# Altium footprint library connectors.PcbLib: 60 footprints (part 3 of 4)
Each footprint in its own frame and in the unit in brackets; x right, y up, seen from the top. Pads: shape width x height; smd on the part's side, far side on the other; paste and mask are expansions set on the pad; w line width, h text height; cw(c..) or ccw(c..) is an arc to the next point about the centre after c.
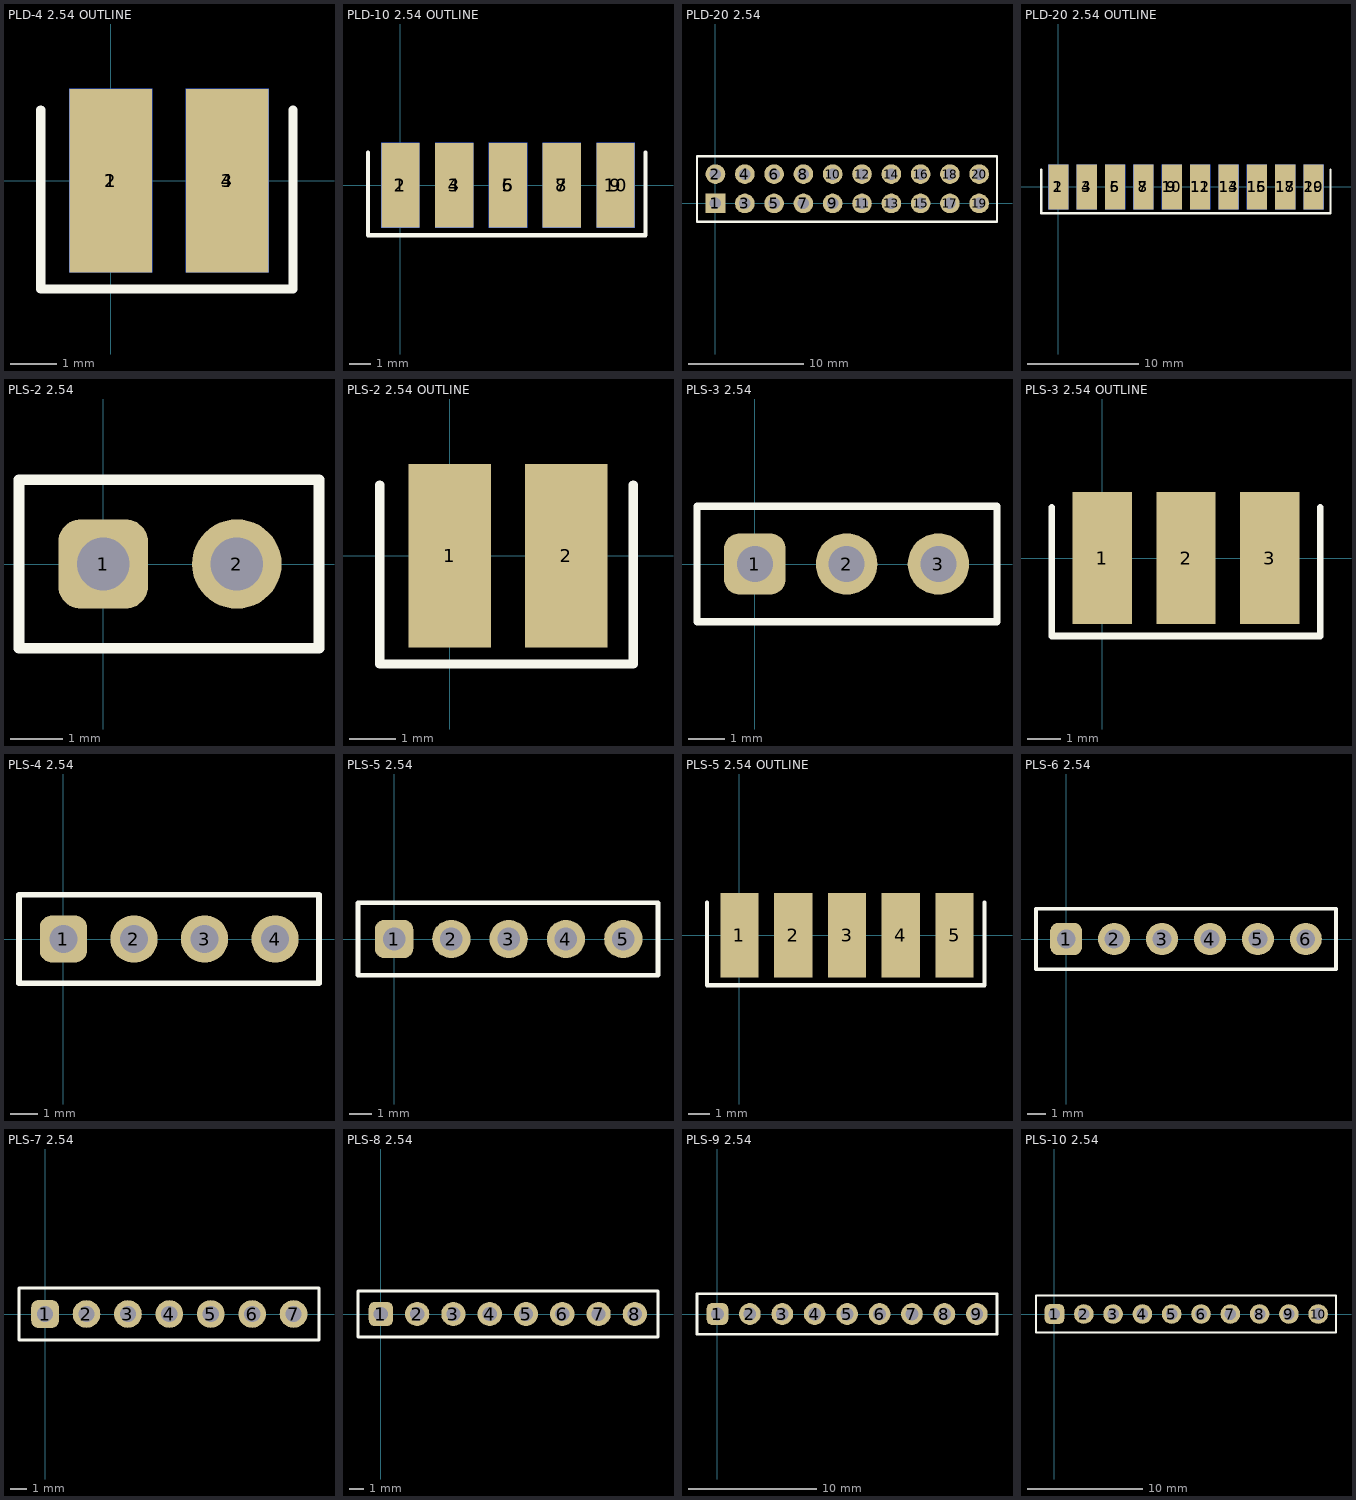
[diagram p2: the footprints below, top view; thin cyan lines are the x and y axes]

## PLD-4 2.54 OUTLINE [mm] "Pitch 2.54"
height 8.5
pads (4):
  rect 1.8x4 smd mask+0.1: 1(0,0) 3(2.54,0)
  rect 1.8x4 smd far side mask+0.1: 2(0,0) 4(2.54,0)
Top Overlay:
  lines w0.2: -1.524,1.54 -1.524,-2.36 3.97,-2.36 3.97,1.54
3D body "HEADER_1x2_2.54.stp": height -0.87, standoff -3.41, extent -1.33,-0.46 3.75,11.08
3D body "HEADER_1x2_2.54.stp": height 1.67, standoff -0.87, extent -1.33,-0.46 3.75,11.08

## PLD-10 2.54 OUTLINE [mm] "Pitch 2.54"
height 8.5
pads (10):
  rect 1.8x4 smd mask+0.1: 1(0,0) 3(2.54,0) 5(5.08,0) 7(7.62,0) 9(10.16,0)
  rect 1.8x4 smd far side mask+0.1: 2(0,0) 4(2.54,0) 6(5.08,0) 8(7.62,0) 10(10.16,0)
Top Overlay:
  lines w0.2: -1.524,1.54 -1.524,-2.36 11.57,-2.36 11.57,1.54
3D body "HEADER_1x5_2.54.stp": height 1.67, standoff -0.87, extent -1.33,-0.46 11.37,11.08
3D body "HEADER_1x5_2.54.stp": height -0.87, standoff -3.41, extent -1.33,-0.46 11.37,11.08

## PLD-20 2.54 [mm] "Pitch 2.54"
height 8.5
pads (20):
  rect 1.7x1.7 hole 1 mask+0.1: 1(0,0)
  round 1.7 hole 1 mask+0.1: 2(0,2.54) 3(2.54,0) 4(2.54,2.54) 5(5.08,0) 6(5.08,2.54) 7(7.62,0) 8(7.62,2.54) 9(10.16,0) 10(10.16,2.54) 11(12.7,0) 12(12.7,2.54) 13(15.24,0) 14(15.24,2.54) 15(17.78,0) 16(17.78,2.54) 17(20.32,0) 18(20.32,2.54) 19(22.86,0) 20(22.86,2.54)
Top Overlay:
  lines w0.2: -1.6,-1.6 24.4,-1.6 24.4,4.1 -1.6,4.1 -1.6,-1.6
3D body "HEADER_1x10_2.54.stp": height 8.54, standoff -3, extent -1.27,-1.27 24.13,1.27
3D body "HEADER_1x10_2.54.stp": height 8.54, standoff -3, extent -1.27,1.27 24.13,3.81

## PLD-20 2.54 OUTLINE [mm] "Pitch 2.54"
height 8.5
pads (20):
  rect 1.8x4 smd mask+0.1: 1(0,0) 3(2.54,0) 5(5.08,0) 7(7.62,0) 9(10.16,0) 11(12.7,0) 13(15.24,0) 15(17.78,0) 17(20.32,0) 19(22.86,0)
  rect 1.8x4 smd far side mask+0.1: 2(0,0) 4(2.54,0) 6(5.08,0) 8(7.62,0) 10(10.16,0) 12(12.7,0) 14(15.24,0) 16(17.78,0) 18(20.32,0) 20(22.86,0)
Top Overlay:
  lines w0.2: -1.524,1.54 -1.524,-2.36 24.37,-2.36 24.37,1.54
3D body "HEADER_1x10_2.54.stp": height 1.67, standoff -0.87, extent -1.33,-0.46 24.07,11.08
3D body "HEADER_1x10_2.54.stp": height -0.87, standoff -3.41, extent -1.33,-0.46 24.07,11.08

## PLS-2 2.54 [mm] "Pitch 2.54"
height 8.5
pads (2):
  rrect50% 1.7x1.7 hole 1 mask+0.1: 1(0,0)
  round 1.7 hole 1 mask+0.1: 2(2.54,0)
Top Overlay:
  lines w0.2: -1.6,-1.6 -1.6,1.6 4.1,1.6 4.1,-1.6 -1.6,-1.6
3D body "HEADER_1x2_2.54.stp": height 8.54, standoff -3, extent -1.27,-1.27 3.81,1.27

## PLS-2 2.54 OUTLINE [mm] "Pitch 2.54"
height 8.5
pads (2):
  rect 1.8x4 smd mask+0.1: 1(0,0) 2(2.54,0)
Top Overlay:
  lines w0.2: -1.524,1.54 -1.524,-2.36 4,-2.36 4,1.54
3D body "1x2 Male Pin Header.STEP": height 1.65, standoff -0.85, extent -1.27,-0.4 3.815,13.14

## PLS-3 2.54 [mm] "Pitch 2.54"
height 8.5
pads (3):
  rrect50% 1.7x1.7 hole 1 mask+0.1: 1(0,0)
  round 1.7 hole 1 mask+0.1: 2(2.54,0) 3(5.08,0)
Top Overlay:
  lines w0.2: -1.6,-1.6 -1.6,1.6 6.7,1.6 6.7,-1.6 -1.6,-1.6
3D body "HEADER_1x3_2.54.stp": height 8.54, standoff -3, extent -1.27,-1.27 6.35,1.27

## PLS-3 2.54 OUTLINE [mm] "Pitch 2.54"
height 8.5
pads (3):
  rect 1.8x4 smd mask+0.1: 1(0,0) 2(2.54,0) 3(5.08,0)
Top Overlay:
  lines w0.2: -1.524,1.54 -1.524,-2.36 6.6,-2.36 6.6,1.54
3D body "1x3 Male Pin Header.STEP": height 1.65, standoff -0.85, extent -1.27,-0.4 6.355,13.14

## PLS-4 2.54 [mm] "Pitch 2.54"
height 8.5
pads (4):
  rrect50% 1.7x1.7 hole 1 mask+0.1: 1(0,0)
  round 1.7 hole 1 mask+0.1: 2(2.54,0) 3(5.08,0) 4(7.62,0)
Top Overlay:
  lines w0.2: -1.6,-1.6 9.2,-1.6 9.2,1.6 -1.6,1.6 -1.6,-1.6
3D body "HEADER_1x4_2.54.stp": height 8.54, standoff -3, extent -1.27,-1.27 8.89,1.27

## PLS-5 2.54 [mm] "Pitch 2.54"
height 8.5
pads (5):
  rrect50% 1.7x1.7 hole 1 mask+0.1: 1(0,0)
  round 1.7 hole 1 mask+0.1: 2(2.54,0) 3(5.08,0) 4(7.62,0) 5(10.16,0)
Top Overlay:
  lines w0.2: -1.6,-1.6 11.7,-1.6 11.7,1.6 -1.6,1.6 -1.6,-1.6
3D body "HEADER_1x5_2.54.stp": height 8.54, standoff -3, extent -1.27,-1.27 11.43,1.27

## PLS-5 2.54 OUTLINE [mm] "Pitch 2.54"
height 8.5
pads (5):
  rect 1.8x4 smd mask+0.1: 1(0,0) 2(2.54,0) 3(5.08,0) 4(7.62,0) 5(10.16,0)
Top Overlay:
  lines w0.2: -1.524,1.54 -1.524,-2.36 11.57,-2.36 11.57,1.54
3D body "HEADER_1x5_2.54.stp": height 1.67, standoff -0.87, extent -1.33,-0.46 11.37,11.08

## PLS-6 2.54 [mm] "Pitch 2.54"
height 8.5
pads (6):
  rrect50% 1.7x1.7 hole 1 mask+0.1: 1(0,0)
  round 1.7 hole 1 mask+0.1: 2(2.54,0) 3(5.08,0) 4(7.62,0) 5(10.16,0) 6(12.7,0)
Top Overlay:
  lines w0.2: -1.6,-1.6 -1.6,1.6 14.3,1.6 14.3,-1.6 -1.6,-1.6
3D body "HEADER_1x6_2.54.stp": height 8.54, standoff -3, extent -1.27,-1.27 13.97,1.27

## PLS-7 2.54 [mm] "Pitch 2.54"
height 8.5
pads (7):
  rrect50% 1.7x1.7 hole 1 mask+0.1: 1(0,0)
  round 1.7 hole 1 mask+0.1: 2(2.54,0) 3(5.08,0) 4(7.62,0) 5(10.16,0) 6(12.7,0) 7(15.24,0)
Top Overlay:
  lines w0.2: -1.6,-1.6 -1.6,1.6 16.8,1.6 16.8,-1.6 -1.6,-1.6
3D body "HEADER_1x7_2.54.stp": height 8.54, standoff -3, extent -1.27,-1.27 16.51,1.27

## PLS-8 2.54 [mm] "Pitch 2.54"
height 8.5
pads (8):
  rrect50% 1.7x1.7 hole 1 mask+0.1: 1(0,0)
  round 1.7 hole 1 mask+0.1: 2(2.54,0) 3(5.08,0) 4(7.62,0) 5(10.16,0) 6(12.7,0) 7(15.24,0) 8(17.78,0)
Top Overlay:
  lines w0.2: -1.6,-1.6 19.4,-1.6 19.4,1.6 -1.6,1.6 -1.6,-1.6
3D body "HEADER_1x8_2.54.stp": height 8.54, standoff -3, extent -1.27,-1.27 19.05,1.27

## PLS-9 2.54 [mm] "Pitch 2.54"
height 8.5
pads (9):
  rrect50% 1.7x1.7 hole 1 mask+0.1: 1(0,0)
  round 1.7 hole 1 mask+0.1: 2(2.54,0) 3(5.08,0) 4(7.62,0) 5(10.16,0) 6(12.7,0) 7(15.24,0) 8(17.78,0) 9(20.32,0)
Top Overlay:
  lines w0.2: -1.6,-1.6 -1.6,1.6 21.9,1.6 21.9,-1.6 -1.6,-1.6
3D body "HEADER_1x2_2.54.stp": height 8.54, standoff -3, extent 16.51,-1.27 21.59,1.27
3D body "HEADER_1x7_2.54.stp": height 8.54, standoff -3, extent -1.27,-1.27 16.51,1.27

## PLS-10 2.54 [mm] "Pitch 2.54"
height 8.5
pads (10):
  rrect50% 1.7x1.7 hole 1 mask+0.1: 1(0,0)
  round 1.7 hole 1 mask+0.1: 2(2.54,0) 3(5.08,0) 4(7.62,0) 5(10.16,0) 6(12.7,0) 7(15.24,0) 8(17.78,0) 9(20.32,0) 10(22.86,0)
Top Overlay:
  lines w0.2: -1.6,-1.6 24.4,-1.6 24.4,1.6 -1.6,1.6 -1.6,-1.6
3D body "HEADER_1x10_2.54.stp": height 8.54, standoff -3, extent -1.27,-1.27 24.13,1.27